# EAGLE library part AWH-16G-0232-T (library Connectors)
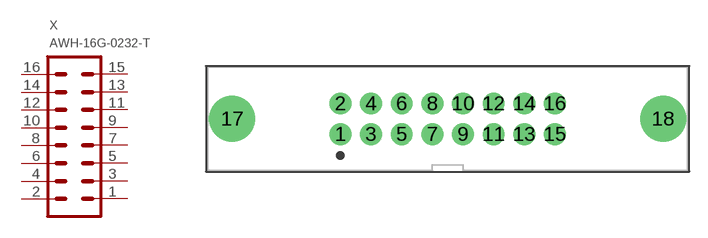
[diagram p5: symbol with the pads of CONN16_AWH-16G-0232-T_ASM; footprint CONN16_AWH-16G-0232-T_ASM]

Designator prefix X

## AWH-16G-0232-T (DESCRIPTION: value; LINK: value; MANUFACTURER: value; PACKAGE: value; PART_NUMBER: value)  [CONN16_AWH-16G-0232-T_ASM]
1  1
2  2
3  3
4  4
5  5
6  6
7  7
8  8
9  9
10  10
11  11
12  12
13  13
14  14
15  15
16  16

## Footprint CONN16_AWH-16G-0232-T_ASM (pad centres in mm)
drill 1.016 pad 1.8: 1 0,0; 2 0,2.54; 3 2.54,0; 4 2.54,2.54; 5 5.08,0; 6 5.08,2.54; 7 7.62,0; 8 7.62,2.54; 9 10.16,0; 10 10.16,2.54; 11 12.7,0; 12 12.7,2.54; 13 15.24,0; 14 15.24,2.54; 15 17.78,0; 16 17.78,2.54
drill 2.794 pad 3.302: 17 -8.966,1.27; 18 26.746,1.27